# Altium footprint library AMASS_XT60PW-F.PcbLib: 1 footprints
Each footprint in its own frame and in the unit in brackets; x right, y up, seen from the top. Pads: shape width x height; smd on the part's side, far side on the other; paste and mask are expansions set on the pad; w line width, h text height; cw(c..) or ccw(c..) is an arc to the next point about the centre after c.
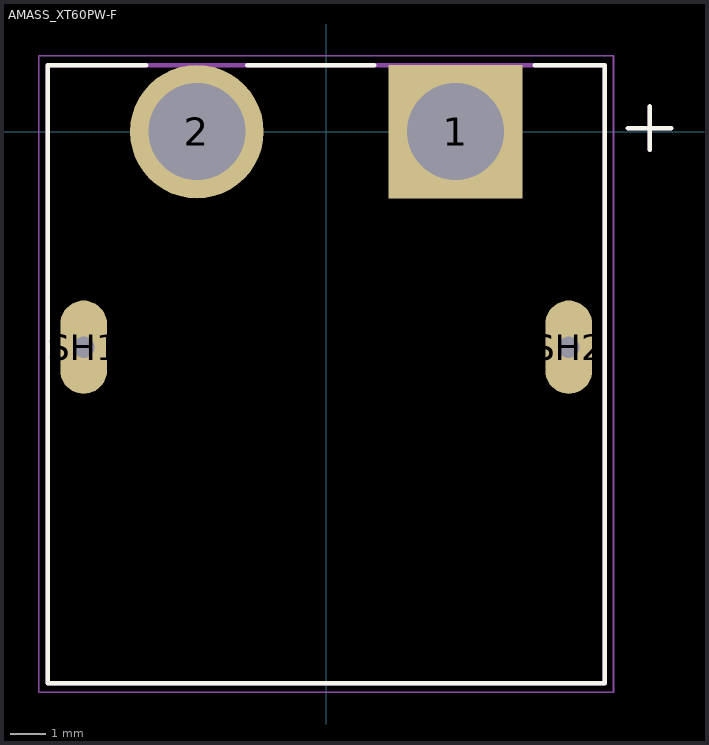
[diagram p0: the footprint, top view; thin cyan lines are the x and y axes]

## AMASS_XT60PW-F [mm]
height 8.4
pads (4):
  rect 3.716x3.716 / inner round 3.716 / far side rect 3.716x3.716 hole 2.7 mask+0.102: 1(3.6,0)
  round 3.716 hole 2.7 mask+0.102: 2(-3.6,0)
  oval 1.3x2.6 hole 0.6 square mask+0.102: SH1(-6.75,-6) SH2(6.75,-6)
Top Overlay:
  lines w0.127: -5.01,1.85 -7.75,1.85 -7.75,-15.35 7.75,-15.35 7.75,1.85 5.81,1.85 ; -2.19,1.85 1.34,1.85 ; 8.4,0.1 9.6,0.1 ; 9,-0.5 9,0.7
Assembly Top:
  lines w0.127: 8.4,0.1 9.6,0.1 ; 9,-0.5 9,0.7 ; -7.75,-15.35 -7.75,1.85 7.75,1.85 7.75,-15.35 -7.75,-15.35
Courtyard Top:
  lines w0.05: -8,-15.6 -8,2.11 8,2.11 8,-15.6 -8,-15.6
3D body "step_temp.STEP": height 8.4, standoff -2.55, extent -7.75,-15.35 7.75,1.85